# EAGLE library part 82S137 (library 82S137)
82S137
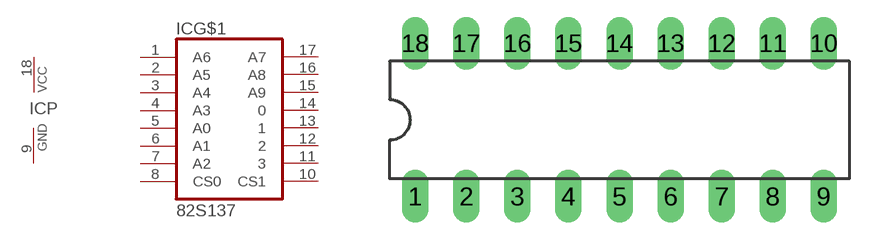
[diagram p0: symbol with the pads of DIL18; footprint DIL18]

Designator prefix IC; gates G$1=82S137S P=PWRN

## 82S137  [DIL18]
1  G$1:A6
2  G$1:A5
3  G$1:A4
4  G$1:A3
5  G$1:A0
6  G$1:A1
7  G$1:A2
8  G$1:CS0
9  P:GND  pwr
10  G$1:CS1
11  G$1:3
12  G$1:2
13  G$1:1
14  G$1:0
15  G$1:A9
16  G$1:A8
17  G$1:A7
18  P:VCC  pwr

## Footprint DIL18 (pad centres in mm)
Dual In Line Package
drill 0.813 long: 1 -8.89,-3.81; 2 -6.35,-3.81; 3 -3.81,-3.81; 4 -1.27,-3.81; 5 1.27,-3.81; 6 3.81,-3.81; 7 6.35,-3.81; 8 8.89,-3.81; 9 11.43,-3.81; 10 11.43,3.81; 11 8.89,3.81; 12 6.35,3.81; 13 3.81,3.81; 14 1.27,3.81; 15 -1.27,3.81; 16 -3.81,3.81; 17 -6.35,3.81; 18 -8.89,3.81